# Altium schematic symbol library RF+GPRS.SchLib: 12 symbols
Pins are listed as number, name and electrical type; pins without a type are passive.

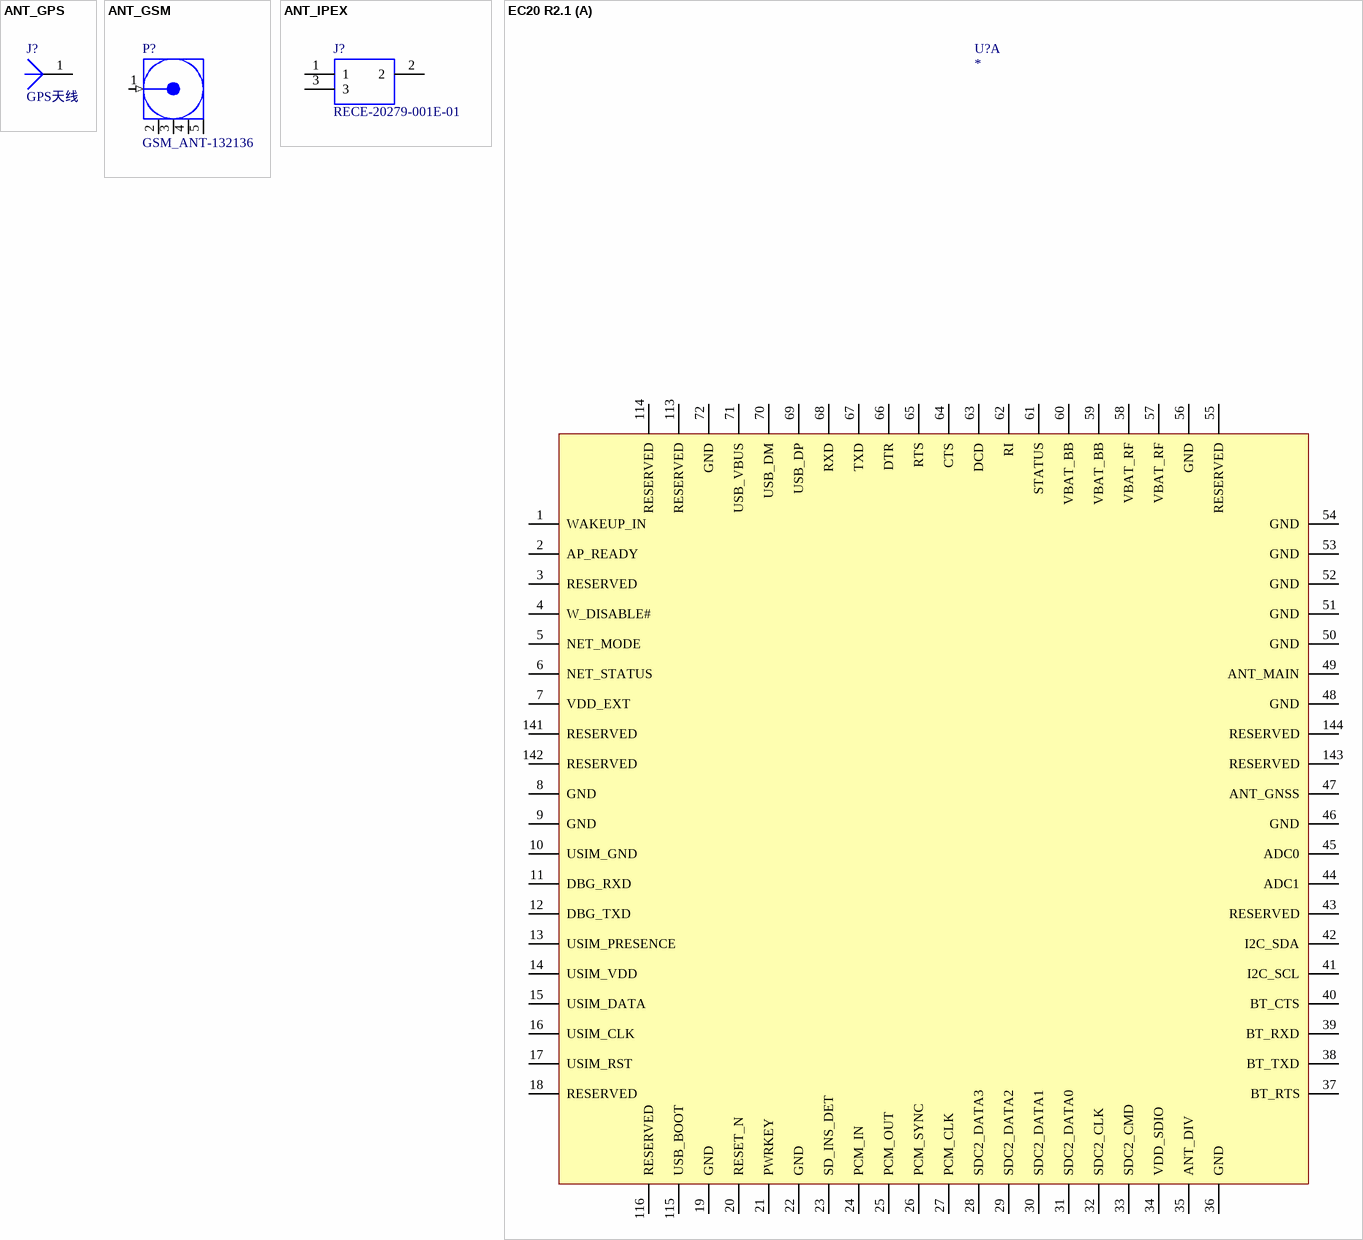
[diagram p0: symbols ANT_GPS to EC20 R2.1]

## ANT_GPS
designator J?, comment GPS天线
footprint ANT18*18*4mm (GPS天线18*18*4mm)
pins: 1

## ANT_GSM
designator P?, comment GSM_ANT-132136
RF Coaxial PCB Connector, MMCX; Thru-Hole, Vertical Mount Plug,  50 Ohm Impedance; PackageDocument: Rev. A, 16-Jun-1997; PCB_Layout: Complies with manufacturer's recommendation.; DrillSize: Corresponds to nominal value.; Published: 15-Jul-2004; LatestRevisionDate: 15-Jul-2004; LatestRevisionNote: Component Replaced.; DatasheetDocument: 30-May-2003; PackageReference: 908-21103; Publisher: Altium Limited; ComponentLink1Description: Manufacturer Link; ComponentLink1URL: http://www.amphenolrf.com/; ComponentLink2Description: 制造链接; ComponentLink2URL: http://www.rfsister.com/products/#; ComponentLink3Description: 销售链接; ComponentLink3URL: http://item.szlcsc.com/140889.html; ComponentLink4Description: 制造链接136134; ComponentLink4URL: https://www.amphenolrf.com/132134.html; ComponentLink5Description: 制造链接132136; ComponentLink5URL: https://www.amphenolrf.com/132136.html
footprint RF_SMA132136 (132136)
footprint RF_SMA132134 (132134)
pins: 1 Signal (in) "Signal Pin", 2 GND (power), 3 GND (power), 4 GND (power), 5 GND (power)

## ANT_IPEX
designator J?, comment RECE-20279-001E-01
RF Connectors / Coaxial Connectors ONBRD IPEX MHF RECEPTACLE; Manufacturer_Name: Taoglas; Manufacturer_Part_Number: RECE-20279-001E-01; RS Part Number: *; RS Price/Stock: *; Mouser Part Number: 960-RECE20279001E01; Mouser Price/Stock: https://www.mouser.com/Search/Refine.aspx?Keyword=960-RECE20279001E01; Datasheet Link: https://www.taoglas.com/wp-content/uploads/2016/04/RECE.20279.001E.01.pdf
footprint ANT_IPEX
pins: 1, 2, 3

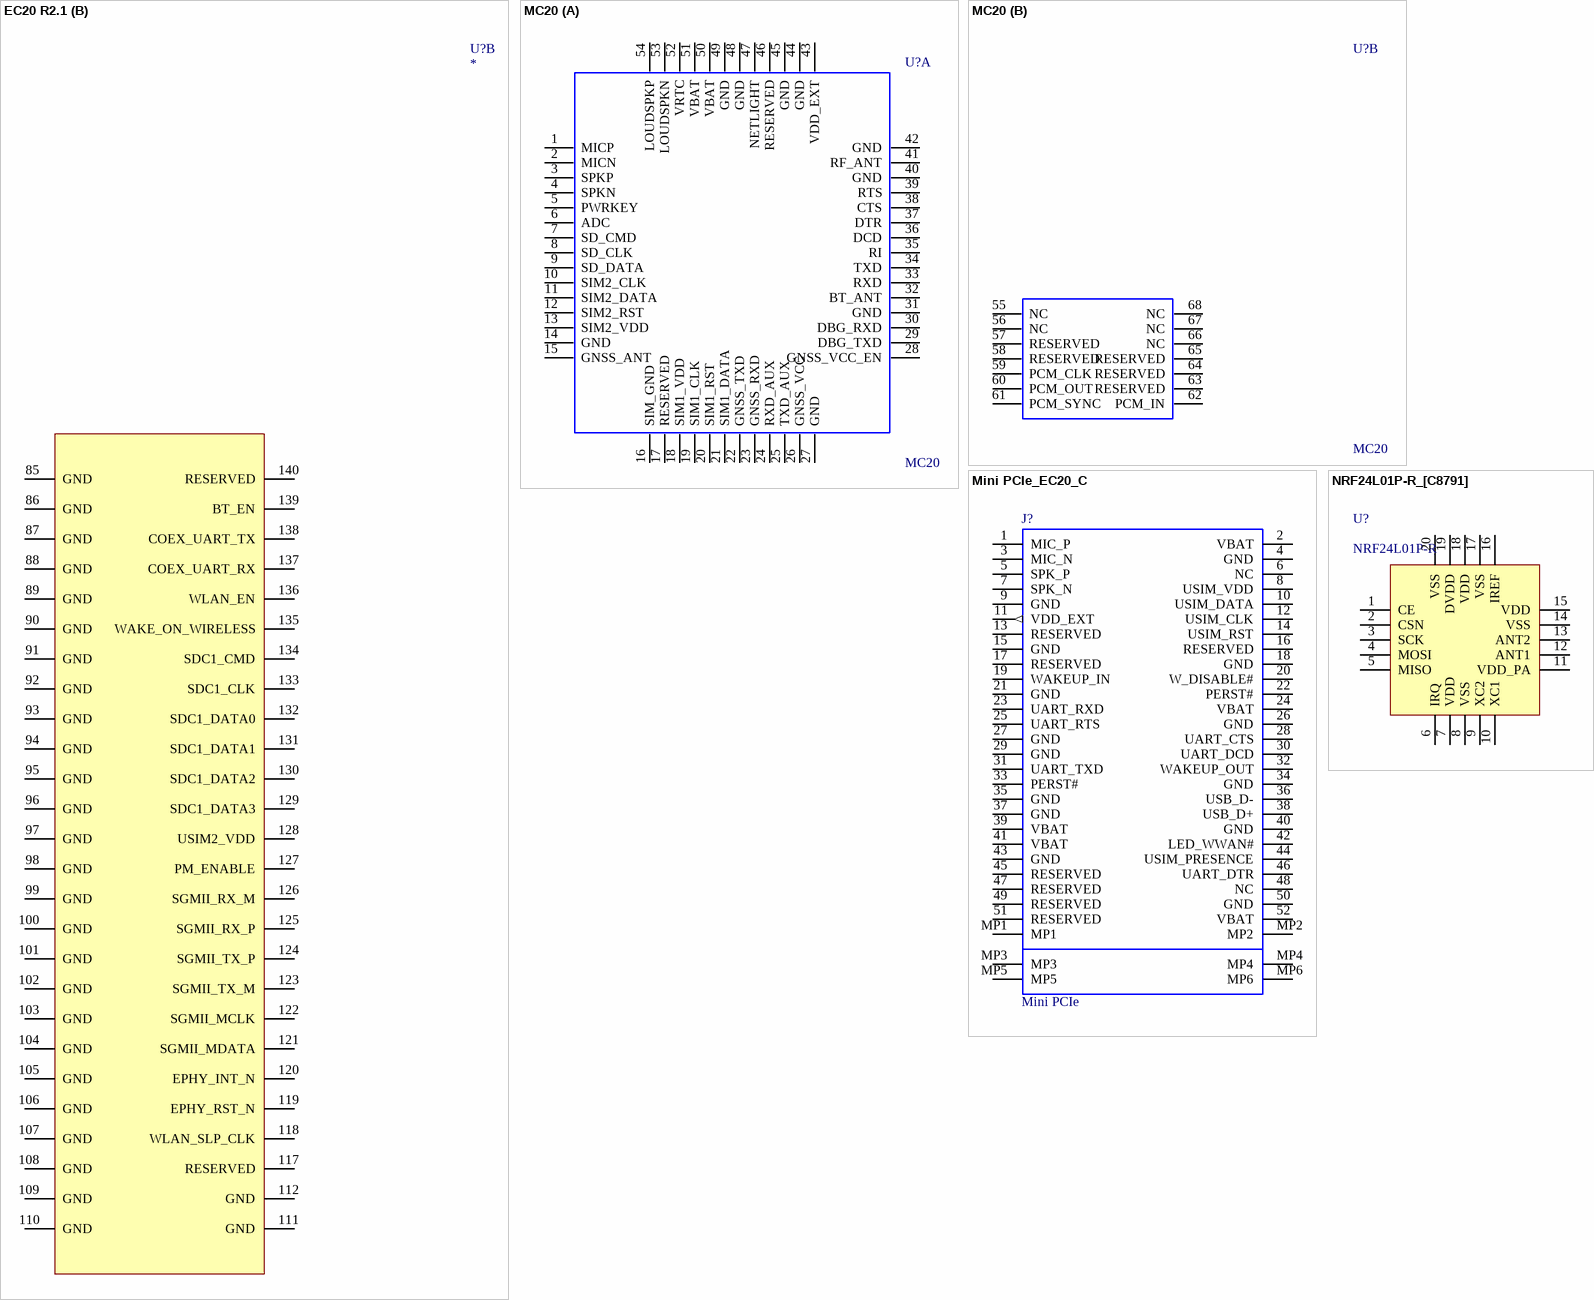
[diagram p1: symbols EC20 R2.1 to NRF24L01P-R_[C8791]]

## EC20 R2.1
designator U?
Value: *; Part Description: *; PCB DECAL: *
footprint EC20_R2.1
part A pins: 1 WAKEUP_IN, 2 AP_READY, 3 RESERVED, 4 W_DISABLE#, 5 NET_MODE, 6 NET_STATUS, 7 VDD_EXT, 8 GND, 9 GND, 10 USIM_GND, 11 DBG_RXD, 12 DBG_TXD, 13 USIM_PRESENCE, 14 USIM_VDD, 15 USIM_DATA, 16 USIM_CLK, 17 USIM_RST, 18 RESERVED, 19 GND, 20 RESET_N, 21 PWRKEY, 22 GND, 23 SD_INS_DET, 24 PCM_IN, 25 PCM_OUT, 26 PCM_SYNC, 27 PCM_CLK, 28 SDC2_DATA3, 29 SDC2_DATA2, 30 SDC2_DATA1, 31 SDC2_DATA0, 32 SDC2_CLK, 33 SDC2_CMD, 34 VDD_SDIO, 35 ANT_DIV, 36 GND, 37 BT_RTS, 38 BT_TXD, 39 BT_RXD, 40 BT_CTS, 41 I2C_SCL, 42 I2C_SDA, 43 RESERVED, 44 ADC1, 45 ADC0, 46 GND, 47 ANT_GNSS, 48 GND, 49 ANT_MAIN, 50 GND, 51 GND, 52 GND, 53 GND, 54 GND, 55 RESERVED, 56 GND, 57 VBAT_RF, 58 VBAT_RF, 59 VBAT_BB, 60 VBAT_BB, 61 STATUS, 62 RI, 63 DCD, 64 CTS, 65 RTS, 66 DTR, 67 TXD, 68 RXD, 69 USB_DP, 70 USB_DM, 71 USB_VBUS, 72 GND, 113 RESERVED, 114 RESERVED, 115 USB_BOOT, 116 RESERVED, 141 RESERVED, 142 RESERVED, 143 RESERVED, 144 RESERVED
part B pins: 85 GND, 86 GND, 87 GND, 88 GND, 89 GND, 90 GND, 91 GND, 92 GND, 93 GND, 94 GND, 95 GND, 96 GND, 97 GND, 98 GND, 99 GND, 100 GND, 101 GND, 102 GND, 103 GND, 104 GND, 105 GND, 106 GND, 107 GND, 108 GND, 109 GND, 110 GND, 111 GND, 112 GND, 117 RESERVED, 118 WLAN_SLP_CLK, 119 EPHY_RST_N, 120 EPHY_INT_N, 121 SGMII_MDATA, 122 SGMII_MCLK, 123 SGMII_TX_M, 124 SGMII_TX_P, 125 SGMII_RX_P, 126 SGMII_RX_M, 127 PM_ENABLE, 128 USIM2_VDD, 129 SDC1_DATA3, 130 SDC1_DATA2, 131 SDC1_DATA1, 132 SDC1_DATA0, 133 SDC1_CLK, 134 SDC1_CMD, 135 WAKE_ON_WIRELESS, 136 WLAN_EN, 137 COEX_UART_RX, 138 COEX_UART_TX, 139 BT_EN, 140 RESERVED
2 alternate drawings of the same symbol

## MC20
designator U?
PCB DECAL: MC20
footprint MC20
part A pins: 1 MICP, 2 MICN, 3 SPKP, 4 SPKN, 5 PWRKEY, 6 ADC, 7 SD_CMD, 8 SD_CLK, 9 SD_DATA, 10 SIM2_CLK, 11 SIM2_DATA, 12 SIM2_RST, 13 SIM2_VDD, 14 GND, 15 GNSS_ANT, 16 SIM_GND, 17 RESERVED, 18 SIM1_VDD, 19 SIM1_CLK, 20 SIM1_RST, 21 SIM1_DATA, 22 GNSS_TXD, 23 GNSS_RXD, 24 RXD_AUX, 25 TXD_AUX, 26 GNSS_VCC, 27 GND, 28 GNSS_VCC_EN, 29 DBG_TXD, 30 DBG_RXD, 31 GND, 32 BT_ANT, 33 RXD, 34 TXD, 35 RI, 36 DCD, 37 DTR, 38 CTS, 39 RTS, 40 GND, 41 RF_ANT, 42 GND, 43 VDD_EXT, 44 GND, 45 GND, 46 RESERVED, 47 NETLIGHT, 48 GND, 49 GND, 50 VBAT, 51 VBAT, 52 VRTC, 53 LOUDSPKN, 54 LOUDSPKP
part B pins: 55 NC, 56 NC, 57 RESERVED, 58 RESERVED, 59 PCM_CLK, 60 PCM_OUT, 61 PCM_SYNC, 62 PCM_IN, 63 RESERVED, 64 RESERVED, 65 RESERVED, 66 NC, 67 NC, 68 NC

## Mini PCIe_EC20_C
designator J?, comment Mini PCIe
PCI Express / PCI Connectors mSATA/mini PCI-E 5.2H Type I G/F; Manufacturer_Name: TE Connectivity; Manufacturer_Part_Number: 1775862-2; Geometry.Height: 5.2mm; Mouser Part Number: 571-1775862-2; Mouser Price/Stock: https://www.mouser.com/Search/Refine.aspx?Keyword=571-1775862-2; RS Part Number: *; RS Price/Stock: *; Datasheet Link: https://www.te.com/commerce/DocumentDelivery/DDEController?Action=srchrtrv&DocNm=1775862&DocType=Customer+Drawing&DocLang=English&DocFormat=pdf&PartCntxt=1775862-2
footprint Mini PCIe-EC20
pins: 1 MIC_P, 2 VBAT, 3 MIC_N, 4 GND, 5 SPK_P, 6 NC, 7 SPK_N, 8 USIM_VDD, 9 GND, 10 USIM_DATA, 11 VDD_EXT (out), 12 USIM_CLK, 13 RESERVED, 14 USIM_RST, 15 GND, 16 RESERVED, 17 RESERVED, 18 GND, 19 WAKEUP_IN, 20 W_DISABLE#, 21 GND, 22 PERST#, 23 UART_RXD, 24 VBAT, 25 UART_RTS, 26 GND, 27 GND, 28 UART_CTS, 29 GND, 30 UART_DCD, 31 UART_TXD, 32 WAKEUP_OUT, 33 PERST#, 34 GND, 35 GND, 36 USB_D-, 37 GND, 38 USB_D+, 39 VBAT, 40 GND, 41 VBAT, 42 LED_WWAN#, 43 GND, 44 USIM_PRESENCE, 45 RESERVED, 46 UART_DTR, 47 RESERVED, 48 NC, 49 RESERVED, 50 GND, 51 RESERVED, 52 VBAT, MP1, MP2, MP3, MP4, MP5, MP6

## NRF24L01P-R_[C8791]
designator U?, comment NRF24L01P-R
无线; ComponentLink1Description: 供应商链接; ComponentLink1URL: http://www.szlcsc.com/product/details_9305.html; Package: QFN-20_4x4x05P; Supplier: LC; SuppliersPartNumber: C8791
footprint QFN-20_4x4x05P
pins: 1 CE, 2 CSN, 3 SCK, 4 MOSI, 5 MISO, 6 IRQ, 7 VDD, 8 VSS, 9 XC2, 10 XC1, 11 VDD_PA, 12 ANT1, 13 ANT2, 14 VSS, 15 VDD, 16 IREF, 17 VSS, 18 VDD, 19 DVDD, 20 VSS

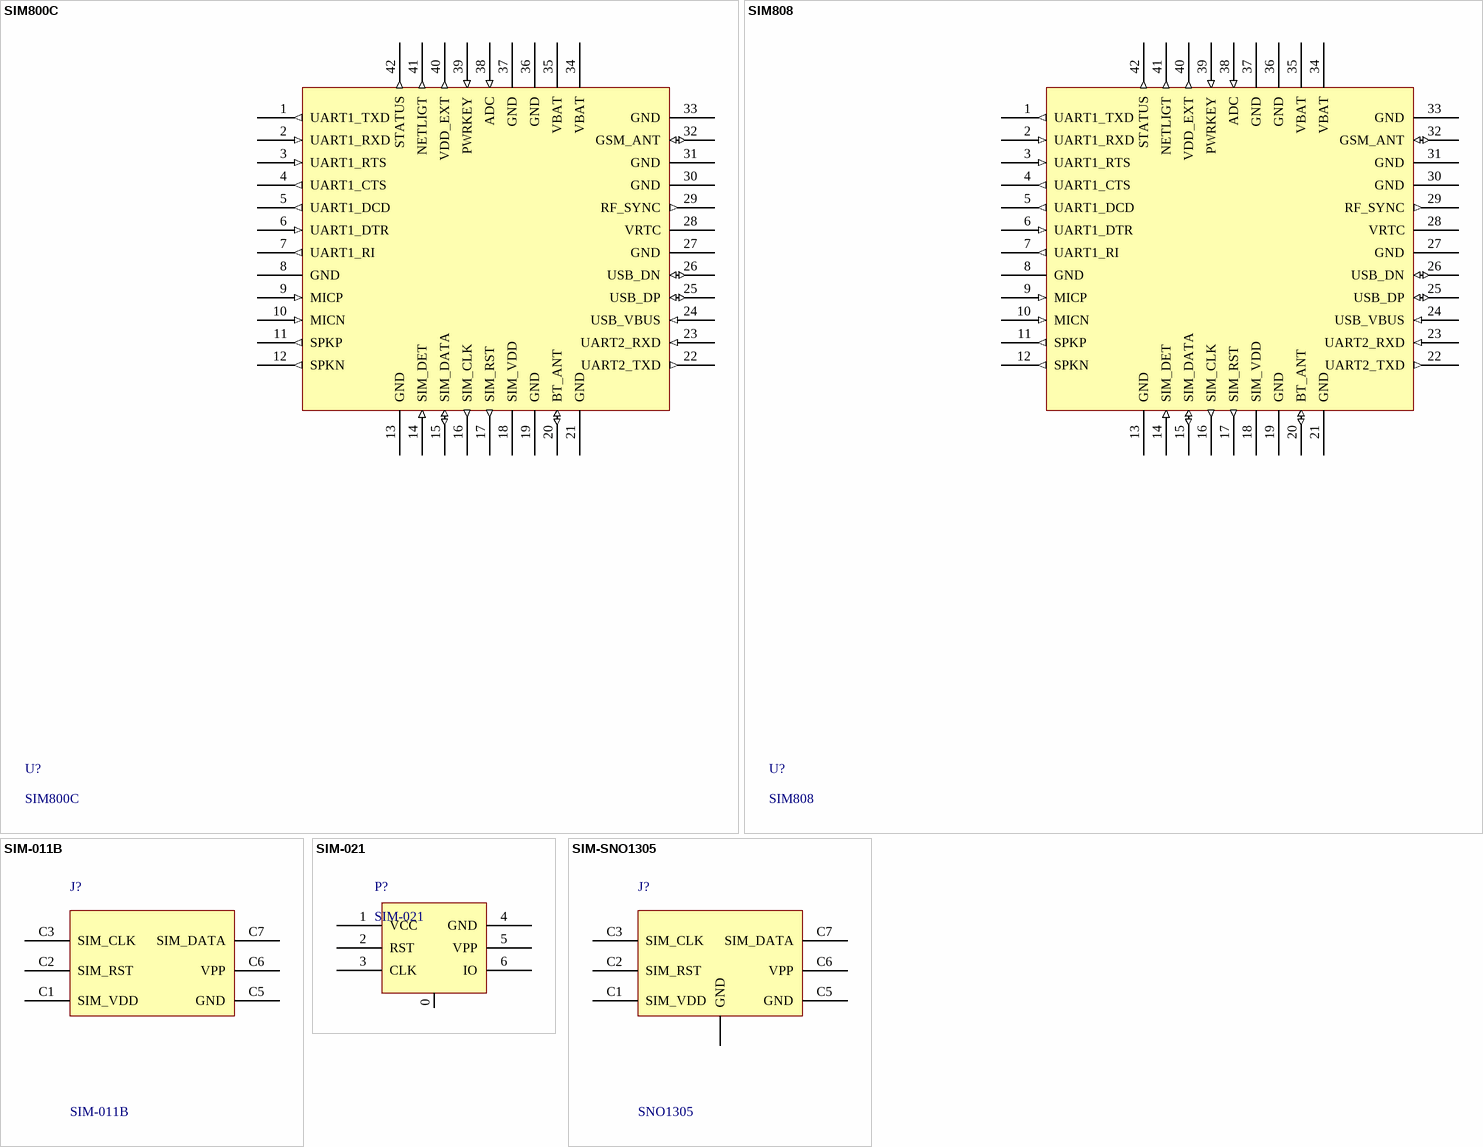
[diagram p2: symbols SIM800C to SIM-SNO1305]

## SIM800C
designator U?
SIM800C_42PIN; ComponentLink1Description: 生产厂链接; ComponentLink1URL: http://www.simcomm2m.com/module/detail.aspx?id=11
footprint SIM800C_42PIN (SIM800C)
pins: 1 UART1_TXD (out), 2 UART1_RXD (in), 3 UART1_RTS (in), 4 UART1_CTS (out), 5 UART1_DCD (out), 6 UART1_DTR (in), 7 UART1_RI (out), 8 GND (power), 9 MICP (in), 10 MICN (in), 11 SPKP (out), 12 SPKN (out), 13 GND (power), 14 SIM_DET (in), 15 SIM_DATA (io), 16 SIM_CLK (out), 17 SIM_RST (out), 18 SIM_VDD (power), 19 GND (power), 20 BT_ANT (io), 21 GND (power), 22 UART2_TXD (out), 23 UART2_RXD (in), 24 USB_VBUS (in), 25 USB_DP (io), 26 USB_DN (io), 27 GND (power), 28 VRTC (power), 29 RF_SYNC (out), 30 GND (power), 31 GND (power), 32 GSM_ANT (io), 33 GND (power), 34 VBAT (power), 35 VBAT (power), 36 GND (power), 37 GND (power), 38 ADC (in), 39 PWRKEY (in), 40 VDD_EXT (out), 41 NETLIGT (out), 42 STATUS (out)

## SIM808
designator U?
ComponentLink1Description: 生产厂链接; ComponentLink1URL: http://www.simcomm2m.com/module/detail.aspx?id=11
pins: 1 UART1_TXD (out), 2 UART1_RXD (in), 3 UART1_RTS (in), 4 UART1_CTS (out), 5 UART1_DCD (out), 6 UART1_DTR (in), 7 UART1_RI (out), 8 GND (power), 9 MICP (in), 10 MICN (in), 11 SPKP (out), 12 SPKN (out), 13 GND (power), 14 SIM_DET (in), 15 SIM_DATA (io), 16 SIM_CLK (out), 17 SIM_RST (out), 18 SIM_VDD (power), 19 GND (power), 20 BT_ANT (io), 21 GND (power), 22 UART2_TXD (out), 23 UART2_RXD (in), 24 USB_VBUS (in), 25 USB_DP (io), 26 USB_DN (io), 27 GND (power), 28 VRTC (power), 29 RF_SYNC (out), 30 GND (power), 31 GND (power), 32 GSM_ANT (io), 33 GND (power), 34 VBAT (power), 35 VBAT (power), 36 GND (power), 37 GND (power), 38 ADC (in), 39 PWRKEY (in), 40 VDD_EXT (out), 41 NETLIGT (out), 42 STATUS (out)

## SIM-011B
designator J?
ComponentLink1Description: SIM-011B; ComponentLink1URL: http://www.ciodin.com/sim-show-78.html
footprint SIM-011B (SIM卡座)
pins: C1 SIM_VDD, C2 SIM_RST, C3 SIM_CLK, C5 GND, C6 VPP, C7 SIM_DATA

## SIM-021
designator P?
SIM卡座; ComponentLink1Description: 生产厂家链接; ComponentLink1URL: http://www.ciodin.com/sim-show-90.html; ComponentLink2Description: 贸易商链接; ComponentLink2URL: http://item.szlcsc.com/112423.html
footprint SIM-021 (sim卡座)
pins: 0, 1 VCC, 2 RST, 3 CLK, 4 GND, 5 VPP, 6 IO

## SIM-SNO1305
designator J?, comment SNO1305
SIM卡座; ComponentLink1Description: 生产商; ComponentLink1URL: http://www.sofng.com/SIM/NANO_SIM__MEMORY_CARD_SOCKETS_/2016/0118/621.html
footprint SIM-SNO1305 (sim卡座)
pins: 0 GND (power), C1 SIM_VDD, C2 SIM_RST, C3 SIM_CLK, C5 GND, C6 VPP, C7 SIM_DATA